# Altium footprint library footprints.PcbLib: 160 footprints (part 8 of 10)
Each footprint in its own frame and in the unit in brackets; x right, y up, seen from the top. Pads: shape width x height; smd on the part's side, far side on the other; paste and mask are expansions set on the pad; w line width, h text height; cw(c..) or ccw(c..) is an arc to the next point about the centre after c.
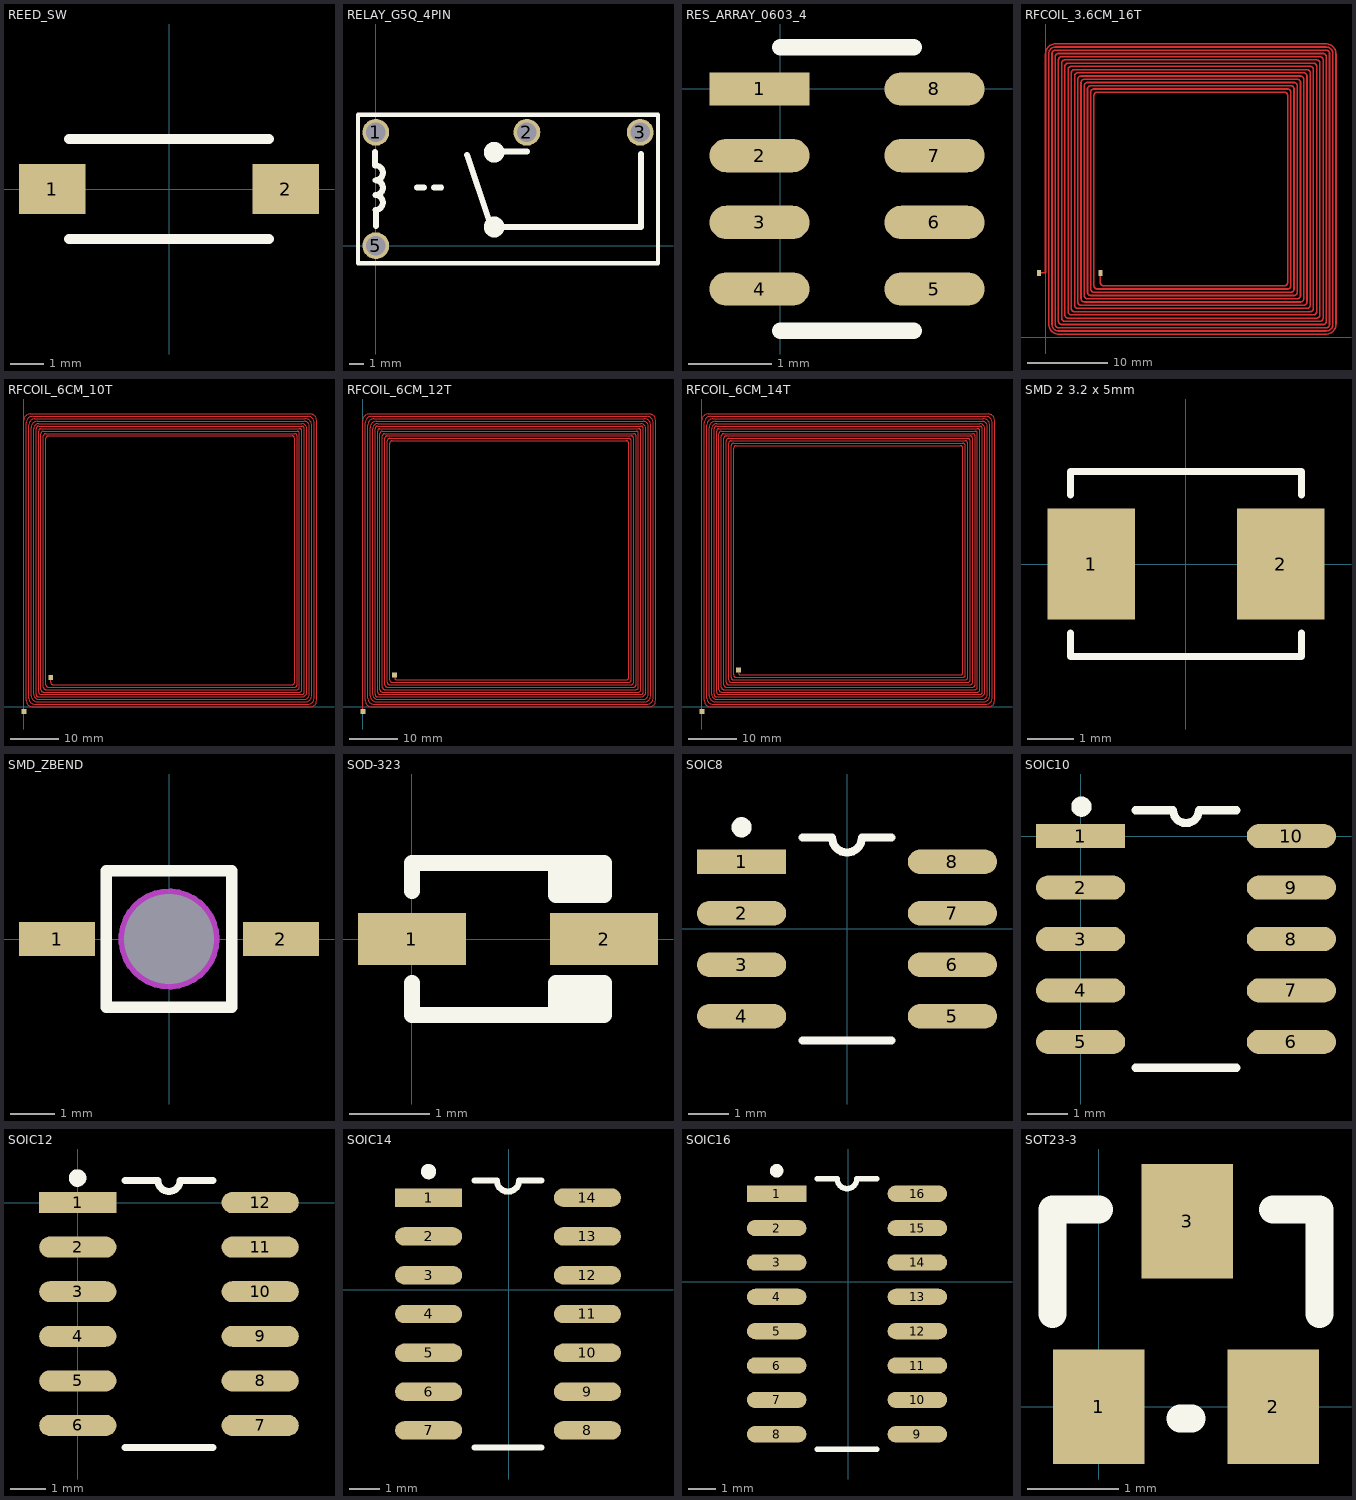
[diagram p7: the footprints below, top view; thin cyan lines are the x and y axes]

## REED_SW [mm]
pads (2):
  rect 2x1.5 smd: 1(-3.5,0) 2(3.5,0)
Top Overlay:
  lines w0.3: -3,-1.5 3,-1.5 ; -3,1.5 3,1.5

## RELAY_G5Q_4PIN [mm]
height 16
pads (4):
  round 1.8 hole 1.3: 1(0,7.62) 2(10.16,7.62) 3(17.78,7.62) 5(0,0)
Top Overlay:
  circle w1: c7.961,1.255 r0.2
  circle w1: c7.961,6.282 r0.2
  lines w0.3: -1.2,-1.2 18.98,-1.2 18.98,8.82 -1.2,8.82 -1.2,-1.2
  lines w0.4: -0.05,5.4 -0.05,6.3 ; -0.025,2.4 ccw(c-0.025,2.9) -0.025,3.4 ccw(c-0.025,3.9) -0.025,4.4 ccw(c-0.025,4.9) -0.025,5.4 ; 0,1.32 0,2.4 ; 2.777,3.925 3.251,3.925 ; 3.925,3.925 4.399,3.925 ; 6.14,6.082 7.657,1.558 ; 8.161,1.255 17.825,1.255 17.825,6.15 ; 8.3,6.325 10.175,6.325

## RES_ARRAY_0603_4 [mm]
pads (8):
  rect 1.2x0.4 smd: 1(-0.25,0)
  oval 1.2x0.4 smd: 2(-0.25,-0.8) 3(-0.25,-1.6) 4(-0.25,-2.4) 5(1.85,-2.4) 6(1.85,-1.6) 7(1.85,-0.8) 8(1.85,0)
Top Overlay:
  lines w0.2: 0,-2.9 1.6,-2.9 ; 0,0.5 1.6,0.5

## RFCOIL_3.6CM_16T [mm] "3.6cm OD, 16 Turns, approx 14uH"
pads (2):
  rect 0.508x0.762 smd mask+0: 0(-0.8,8) 1(6.8,8)
Top Layer:
  lines w0.2: -0.8,8 0,8 0,18.4 0,35.13 cw(c1.27,35.13) 1.27,36.4 34.73,36.4 cw(c34.73,35.13) 36,35.13 36,1.67 cw(c34.73,1.67) 34.73,0.4 1.67,0.4 cw(c1.67,1.67) 0.4,1.67 0.4,35.2 cw(c1.2,35.2) 1.2,36 34.8,36 cw(c34.8,35.2) 35.6,35.2 35.6,1.6 cw(c34.8,1.6) 34.8,0.8 1.6,0.8 cw(c1.6,1.6) 0.8,1.6 0.8,35.2 cw(c1.2,35.2) 1.2,35.6 34.8,35.6 cw(c34.8,35.2) 35.2,35.2 35.2,1.6 cw(c34.8,1.6) 34.8,1.2 1.6,1.2 cw(c1.6,1.6) 1.2,1.6 1.2,34.8 cw(c1.6,34.8) 1.6,35.2 34.4,35.2 cw(c34.4,34.8) 34.8,34.8 34.8,2 cw(c34.4,2) 34.4,1.6 2,1.6 cw(c2,2) 1.6,2 1.6,34.4 cw(c2,34.4) 2,34.8 34,34.8 cw(c34,34.4) 34.4,34.4 34.4,2.4 cw(c34,2.4) 34,2 2.4,2 cw(c2.4,2.4) 2,2.4 2,34 cw(c2.4,34) 2.4,34.4 33.6,34.4 cw(c33.6,34) 34,34 34,2.8 cw(c33.6,2.8) 33.6,2.4 2.8,2.4 cw(c2.8,2.8) 2.4,2.8 2.4,33.6 cw(c2.8,33.6) 2.8,34 33.2,34 cw(c33.2,33.6) 33.6,33.6 33.6,3.2 cw(c33.2,3.2) 33.2,2.8 3.2,2.8 cw(c3.2,3.2) 2.8,3.2 2.8,33.2 cw(c3.2,33.2) 3.2,33.6 32.8,33.6 cw(c32.8,33.2) 33.2,33.2 33.2,3.6 cw(c32.8,3.6) 32.8,3.2 3.6,3.2 cw(c3.6,3.6) 3.2,3.6 3.2,32.8 cw(c3.6,32.8) 3.6,33.2 32.4,33.2 cw(c32.4,32.8) 32.8,32.8 32.8,4 cw(c32.4,4) 32.4,3.6 4,3.6 cw(c4,4) 3.6,4 3.6,32.4 cw(c4,32.4) 4,32.8 32,32.8 cw(c32,32.4) 32.4,32.4 32.4,4.4 cw(c32,4.4) 32,4 4.4,4 cw(c4.4,4.4) 4,4.4 4,32 cw(c4.4,32) 4.4,32.4 31.6,32.4 cw(c31.6,32) 32,32 32,4.8 cw(c31.6,4.8) 31.6,4.4 4.8,4.4 cw(c4.8,4.8) 4.4,4.8 4.4,31.6 cw(c4.8,31.6) 4.8,32 31.2,32 cw(c31.2,31.6) 31.6,31.6 31.6,5.2 cw(c31.2,5.2) 31.2,4.8 5.2,4.8 cw(c5.2,5.2) 4.8,5.2 4.8,31.2 cw(c5.2,31.2) 5.2,31.6 30.8,31.6 cw(c30.8,31.2) 31.2,31.2 31.2,5.6 cw(c30.8,5.6) 30.8,5.2 5.6,5.2 cw(c5.6,5.6) 5.2,5.6 5.2,30.8 cw(c5.6,30.8) 5.6,31.2 30.4,31.2 cw(c30.4,30.8) 30.8,30.8 30.8,6 cw(c30.4,6) 30.4,5.6 6,5.6 cw(c6,6) 5.6,6 5.6,18.4 5.6,30.4 cw(c6,30.4) 6,30.8 30,30.8 cw(c30,30.4) 30.4,30.4 30.4,6.4 cw(c30,6.4) 30,6 6.4,6 cw(c6.4,6.4) 6,6.4 6,18.4 6,30 cw(c6.4,30) 6.4,30.4 29.6,30.4 cw(c29.6,30) 30,30 30,6.8 cw(c29.6,6.8) 29.6,6.4 7.2,6.4 cw(c7.2,6.8) 6.8,6.8 6.8,8

## RFCOIL_6CM_10T [mm] "6cm OD, 10 Turns, approx 14uH"
pads (2):
  rect 1x1 smd: 0(5.5,6) 1(0,-1)
Top Layer:
  lines w0.2: 0,-1 0,0 0,58.73 cw(c1.27,58.73) 1.27,60 58.73,60 cw(c58.73,58.73) 60,58.73 60,1.27 cw(c58.73,1.27) 58.73,0 1.77,0 cw(c1.77,1.27) 0.5,1.27 0.5,58.23 cw(c1.77,58.23) 1.77,59.5 58.23,59.5 cw(c58.23,58.23) 59.5,58.23 59.5,1.77 cw(c58.23,1.77) 58.23,0.5 2.27,0.5 cw(c2.27,1.77) 1,1.77 1,57.73 cw(c2.27,57.73) 2.27,59 57.73,59 cw(c57.73,57.73) 59,57.73 59,2.27 cw(c57.73,2.27) 57.73,1 2.77,1 cw(c2.77,2.27) 1.5,2.27 1.5,57.23 cw(c2.77,57.23) 2.77,58.5 57.5,58.5 cw(c57.5,57.5) 58.5,57.5 58.5,2.5 cw(c57.5,2.5) 57.5,1.5 3,1.5 cw(c3,2.5) 2,2.5 2,57 cw(c3,57) 3,58 57,58 cw(c57,57) 58,57 58,3 cw(c57,3) 57,2 3,2 cw(c3,2.5) 2.5,2.5 2.5,57 cw(c3,57) 3,57.5 57,57.5 cw(c57,57) 57.5,57 57.5,3 cw(c57,3) 57,2.5 3.5,2.5 cw(c3.5,3) 3,3 3,56.5 cw(c3.5,56.5) 3.5,57 56.5,57 cw(c56.5,56.5) 57,56.5 57,3.5 cw(c56.5,3.5) 56.5,3 4,3 cw(c4,3.5) 3.5,3.5 3.5,56 cw(c4,56) 4,56.5 56,56.5 cw(c56,56) 56.5,56 56.5,4 cw(c56,4) 56,3.5 4.5,3.5 cw(c4.5,4) 4,4 4,55.5 cw(c4.5,55.5) 4.5,56 55.5,56 cw(c55.5,55.5) 56,55.5 56,4.5 cw(c55.5,4.5) 55.5,4 5,4 cw(c5,4.5) 4.5,4.5 4.5,55 cw(c5,55) 5,55.5 55,55.5 cw(c55,55) 55.5,55 55.5,5 cw(c55,5) 55,4.5 6.5,4.5 6,4.5 cw(c6,5) 5.5,5 5.5,6

## RFCOIL_6CM_12T [mm] "6cm OD, 12 Turns, approx. 18uH"
pads (2):
  rect 1x1 smd: 0(6.5,6.5) 1(0,-1)
Top Layer:
  lines w0.2: 0,-1 0,0 0,58.73 cw(c1.27,58.73) 1.27,60 58.73,60 cw(c58.73,58.73) 60,58.73 60,1.27 cw(c58.73,1.27) 58.73,0 1.77,0 cw(c1.77,1.27) 0.5,1.27 0.5,58.23 cw(c1.77,58.23) 1.77,59.5 58.23,59.5 cw(c58.23,58.23) 59.5,58.23 59.5,1.77 cw(c58.23,1.77) 58.23,0.5 2.27,0.5 cw(c2.27,1.77) 1,1.77 1,57.73 cw(c2.27,57.73) 2.27,59 57.73,59 cw(c57.73,57.73) 59,57.73 59,2.27 cw(c57.73,2.27) 57.73,1 2.77,1 cw(c2.77,2.27) 1.5,2.27 1.5,57.23 cw(c2.77,57.23) 2.77,58.5 57.5,58.5 cw(c57.5,57.5) 58.5,57.5 58.5,2.5 cw(c57.5,2.5) 57.5,1.5 3,1.5 cw(c3,2.5) 2,2.5 2,57 cw(c3,57) 3,58 57,58 cw(c57,57) 58,57 58,3 cw(c57,3) 57,2 3,2 cw(c3,2.5) 2.5,2.5 2.5,57 cw(c3,57) 3,57.5 57,57.5 cw(c57,57) 57.5,57 57.5,3 cw(c57,3) 57,2.5 3.5,2.5 cw(c3.5,3) 3,3 3,56.5 cw(c3.5,56.5) 3.5,57 56.5,57 cw(c56.5,56.5) 57,56.5 57,3.5 cw(c56.5,3.5) 56.5,3 4,3 cw(c4,3.5) 3.5,3.5 3.5,56 cw(c4,56) 4,56.5 56,56.5 cw(c56,56) 56.5,56 56.5,4 cw(c56,4) 56,3.5 6,3.5 4.5,3.5 cw(c4.5,4) 4,4 4,55.5 cw(c4.5,55.5) 4.5,56 55.5,56 cw(c55.5,55.5) 56,55.5 56,4.5 cw(c55.5,4.5) 55.5,4 5,4 cw(c5,4.5) 4.5,4.5 4.5,55 cw(c5,55) 5,55.5 55,55.5 cw(c55,55) 55.5,55 55.5,5 cw(c55,5) 55,4.5 5.5,4.5 cw(c5.5,5) 5,5 5,54.5 cw(c5.5,54.5) 5.5,55 54.5,55 cw(c54.5,54.5) 55,54.5 55,5.5 cw(c54.5,5.5) 54.5,5 6.5,5 6,5 ; 6.5,6 ccw(c7,6) 7,5.5 54,5.5 ccw(c54,6) 54.5,6 54.5,54 ccw(c54,54) 54,54.5 6,54.5 ccw(c6,54) 5.5,54 5.5,5.5 ccw(c6,5.5) 6,5 ; 6,5 6,5

## RFCOIL_6CM_14T [mm] "6cm OD, 14Turns, approx. 23uH"
pads (2):
  rect 1x1 smd: 0(7.5,7.5) 1(0,-1)
Top Layer:
  lines w0.2: 0,-1 0,0 0,58.73 cw(c1.27,58.73) 1.27,60 58.73,60 cw(c58.73,58.73) 60,58.73 60,1.27 cw(c58.73,1.27) 58.73,0 1.77,0 cw(c1.77,1.27) 0.5,1.27 0.5,58.23 cw(c1.77,58.23) 1.77,59.5 58.23,59.5 cw(c58.23,58.23) 59.5,58.23 59.5,1.77 cw(c58.23,1.77) 58.23,0.5 2.27,0.5 cw(c2.27,1.77) 1,1.77 1,57.73 cw(c2.27,57.73) 2.27,59 57.73,59 cw(c57.73,57.73) 59,57.73 59,2.27 cw(c57.73,2.27) 57.73,1 2.77,1 cw(c2.77,2.27) 1.5,2.27 1.5,57.23 cw(c2.77,57.23) 2.77,58.5 57.5,58.5 cw(c57.5,57.5) 58.5,57.5 58.5,2.5 cw(c57.5,2.5) 57.5,1.5 3,1.5 cw(c3,2.5) 2,2.5 2,57 cw(c3,57) 3,58 57,58 cw(c57,57) 58,57 58,3 cw(c57,3) 57,2 3,2 cw(c3,2.5) 2.5,2.5 2.5,57 cw(c3,57) 3,57.5 57,57.5 cw(c57,57) 57.5,57 57.5,3 cw(c57,3) 57,2.5 3.5,2.5 cw(c3.5,3) 3,3 3,56.5 cw(c3.5,56.5) 3.5,57 56.5,57 cw(c56.5,56.5) 57,56.5 57,3.5 cw(c56.5,3.5) 56.5,3 4,3 cw(c4,3.5) 3.5,3.5 3.5,56 cw(c4,56) 4,56.5 56,56.5 cw(c56,56) 56.5,56 56.5,4 cw(c56,4) 56,3.5 6,3.5 4.5,3.5 cw(c4.5,4) 4,4 4,55.5 cw(c4.5,55.5) 4.5,56 55.5,56 cw(c55.5,55.5) 56,55.5 56,4.5 cw(c55.5,4.5) 55.5,4 5,4 cw(c5,4.5) 4.5,4.5 4.5,55 cw(c5,55) 5,55.5 55,55.5 cw(c55,55) 55.5,55 55.5,5 cw(c55,5) 55,4.5 5.5,4.5 cw(c5.5,5) 5,5 5,54.5 cw(c5.5,54.5) 5.5,55 54.5,55 cw(c54.5,54.5) 55,54.5 55,5.5 cw(c54.5,5.5) 54.5,5 6.5,5 6,5 ; 7.5,7 ccw(c8,7) 8,6.5 53,6.5 ccw(c53,7) 53.5,7 53.5,53 ccw(c53,53) 53,53.5 7,53.5 ccw(c7,53) 6.5,53 6.5,6.5 ccw(c7,6.5) 7,6 53.5,6 ccw(c53.5,6.5) 54,6.5 54,53.5 ccw(c53.5,53.5) 53.5,54 6.5,54 ccw(c6.5,53.5) 6,53.5 6,6 ccw(c6.5,6) 6.5,5.5 7,5.5 54,5.5 ccw(c54,6) 54.5,6 54.5,54 ccw(c54,54) 54,54.5 6,54.5 ccw(c6,54) 5.5,54 5.5,5.5 ccw(c6,5.5) 6,5 ; 6,5 6,5

## SMD 2 3.2 x 5mm [mm]
pads (2):
  rect 1.9x2.4 smd: 1(-2.05,0) 2(2.05,0)
Top Overlay:
  lines w0.152: -2.5,-1.5 -2.5,-2 2.5,-2 2.5,-1.5 ; -2.5,1.5 -2.5,2 2.5,2 2.5,1.5

## SMD_ZBEND [mm] "bottom entry, led / pin diode footprint"
pads (3):
  round 0 hole 2: 0(0,0)
  rect 1.7x0.75 smd: 1(-2.5,0) 2(2.5,0)
Top Overlay:
  lines w0.254: -1.4,-1.524 -1.4,1.524 1.4,1.524 1.4,-1.524 -1.4,-1.524
Keep-Out Layer:
  circle w0.254: c0,0 r1
Mechanical 1:
  circle w0.254: c0,0 r1

## SOD-323 [mm]
pads (2):
  rect 1.35x0.65 smd: 1(0,0) 2(2.4,0)
Top Overlay:
  lines w0.2: 0,-0.55 0,-0.95 2.4,-0.95 2.4,-0.55 ; 0,0.6 0,0.95 2.4,0.95 2.4,0.55 2.2,0.55 ; 1.8,-0.95 1.8,-0.55 2,-0.55 ; 1.8,0.95 1.8,0.55 2,0.55 ; 2,-0.85 2,-0.55 ; 2,0.95 2,0.55 ; 2.2,-0.85 2.2,-0.55 2.4,-0.55 ; 2.2,0.95 2.2,0.55 ; 2,-0.55 2.4,-0.55 ; 2,0.55 2.2,0.55

## SOIC8 [mm] "1.27mm pin pitch"
pads (8):
  rect 2.2x0.6 smd: 1(-2.6,1.655)
  oval 2.2x0.6 smd: 2(-2.6,0.385) 3(-2.6,-0.885) 4(-2.6,-2.155) 5(2.6,-2.155) 6(2.6,-0.885) 7(2.6,0.385) 8(2.6,1.655)
Top Overlay:
  circle w0.25: c-2.6,2.505 r0.125
  lines w0.2: -1.1,-2.75 1.1,-2.75 ; -1.1,2.25 -0.367,2.25 ccw(c0,2.25) 0.367,2.25 1.1,2.25
3D body: height 1.75, standoff 0, extent -3.081,-2.75 2.931,2.25

## SOIC10 [mm] "1.27mm pin pitch"
pads (10):
  rect 2.2x0.6 smd: 1(0,0)
  oval 2.2x0.6 smd: 2(0,-1.27) 3(0,-2.54) 4(0,-3.81) 5(0,-5.08) 6(5.2,-5.08) 7(5.2,-3.81) 8(5.2,-2.54) 9(5.2,-1.27) 10(5.2,0)
Top Overlay:
  circle w0.25: c0.02,0.725 r0.125
  lines w0.2: 1.35,-5.715 3.85,-5.715 ; 1.35,0.635 2.282,0.635 ccw(c2.6,0.635) 2.917,0.635 3.85,0.635

## SOIC12 [mm] "1.27mm pin pitch"
pads (12):
  rect 2.2x0.6 smd: 1(0,0)
  oval 2.2x0.6 smd: 2(0,-1.27) 3(0,-2.54) 4(0,-3.81) 5(0,-5.08) 6(0,-6.35) 7(5.2,-6.35) 8(5.2,-5.08) 9(5.2,-3.81) 10(5.2,-2.54) 11(5.2,-1.27) 12(5.2,0)
Top Overlay:
  circle w0.25: c-0.005,0.7 r0.125
  lines w0.2: 1.35,-6.985 3.85,-6.985 ; 1.35,0.635 2.282,0.635 ccw(c2.6,0.635) 2.917,0.635 3.85,0.635

## SOIC14 [mm] "1.27mm pin pitch"
pads (14):
  rect 2.2x0.6 smd: 1(-2.625,3.01)
  oval 2.2x0.6 smd: 2(-2.625,1.74) 3(-2.625,0.47) 4(-2.625,-0.8) 5(-2.625,-2.07) 6(-2.625,-3.34) 7(-2.625,-4.61) 8(2.575,-4.61) 9(2.575,-3.34) 10(2.575,-2.07) 11(2.575,-0.8) 12(2.575,0.47) 13(2.575,1.74) 14(2.575,3.01)
Top Overlay:
  circle w0.25: c-2.625,3.86 r0.125
  lines w0.2: -1.125,-5.175 1.075,-5.175 ; -1.125,3.575 -0.392,3.575 ccw(c-0.025,3.575) 0.342,3.575 1.075,3.575

## SOIC16 [mm] "1.27mm pin pitch"
pads (16):
  rect 2.2x0.6 smd: 1(-2.65,3.245)
  oval 2.2x0.6 smd: 2(-2.65,1.975) 3(-2.65,0.705) 4(-2.65,-0.565) 5(-2.65,-1.835) 6(-2.65,-3.105) 7(-2.65,-4.375) 8(-2.65,-5.645) 9(2.55,-5.645) 10(2.55,-4.375) 11(2.55,-3.105) 12(2.55,-1.835) 13(2.55,-0.565) 14(2.55,0.705) 15(2.55,1.975) 16(2.55,3.245)
Top Overlay:
  circle w0.25: c-2.65,4.095 r0.125
  lines w0.2: -1.15,-6.2 1.05,-6.2 ; -1.15,3.8 -0.417,3.8 ccw(c-0.05,3.8) 0.317,3.8 1.05,3.8

## SOT23-3 [mm]
pads (3):
  rect 1x1.25 smd: 1(0,0) 2(1.905,0) 3(0.965,2.032)
Top Overlay:
  lines w0.305: -0.508,1.016 -0.508,2.159 0,2.159 ; 0.889,-0.127 1.016,-0.127 ; 1.905,2.159 2.413,2.159 2.413,1.016